# Altium schematic symbol library Connectors.SchLib: 119 symbols (part 2 of 2)
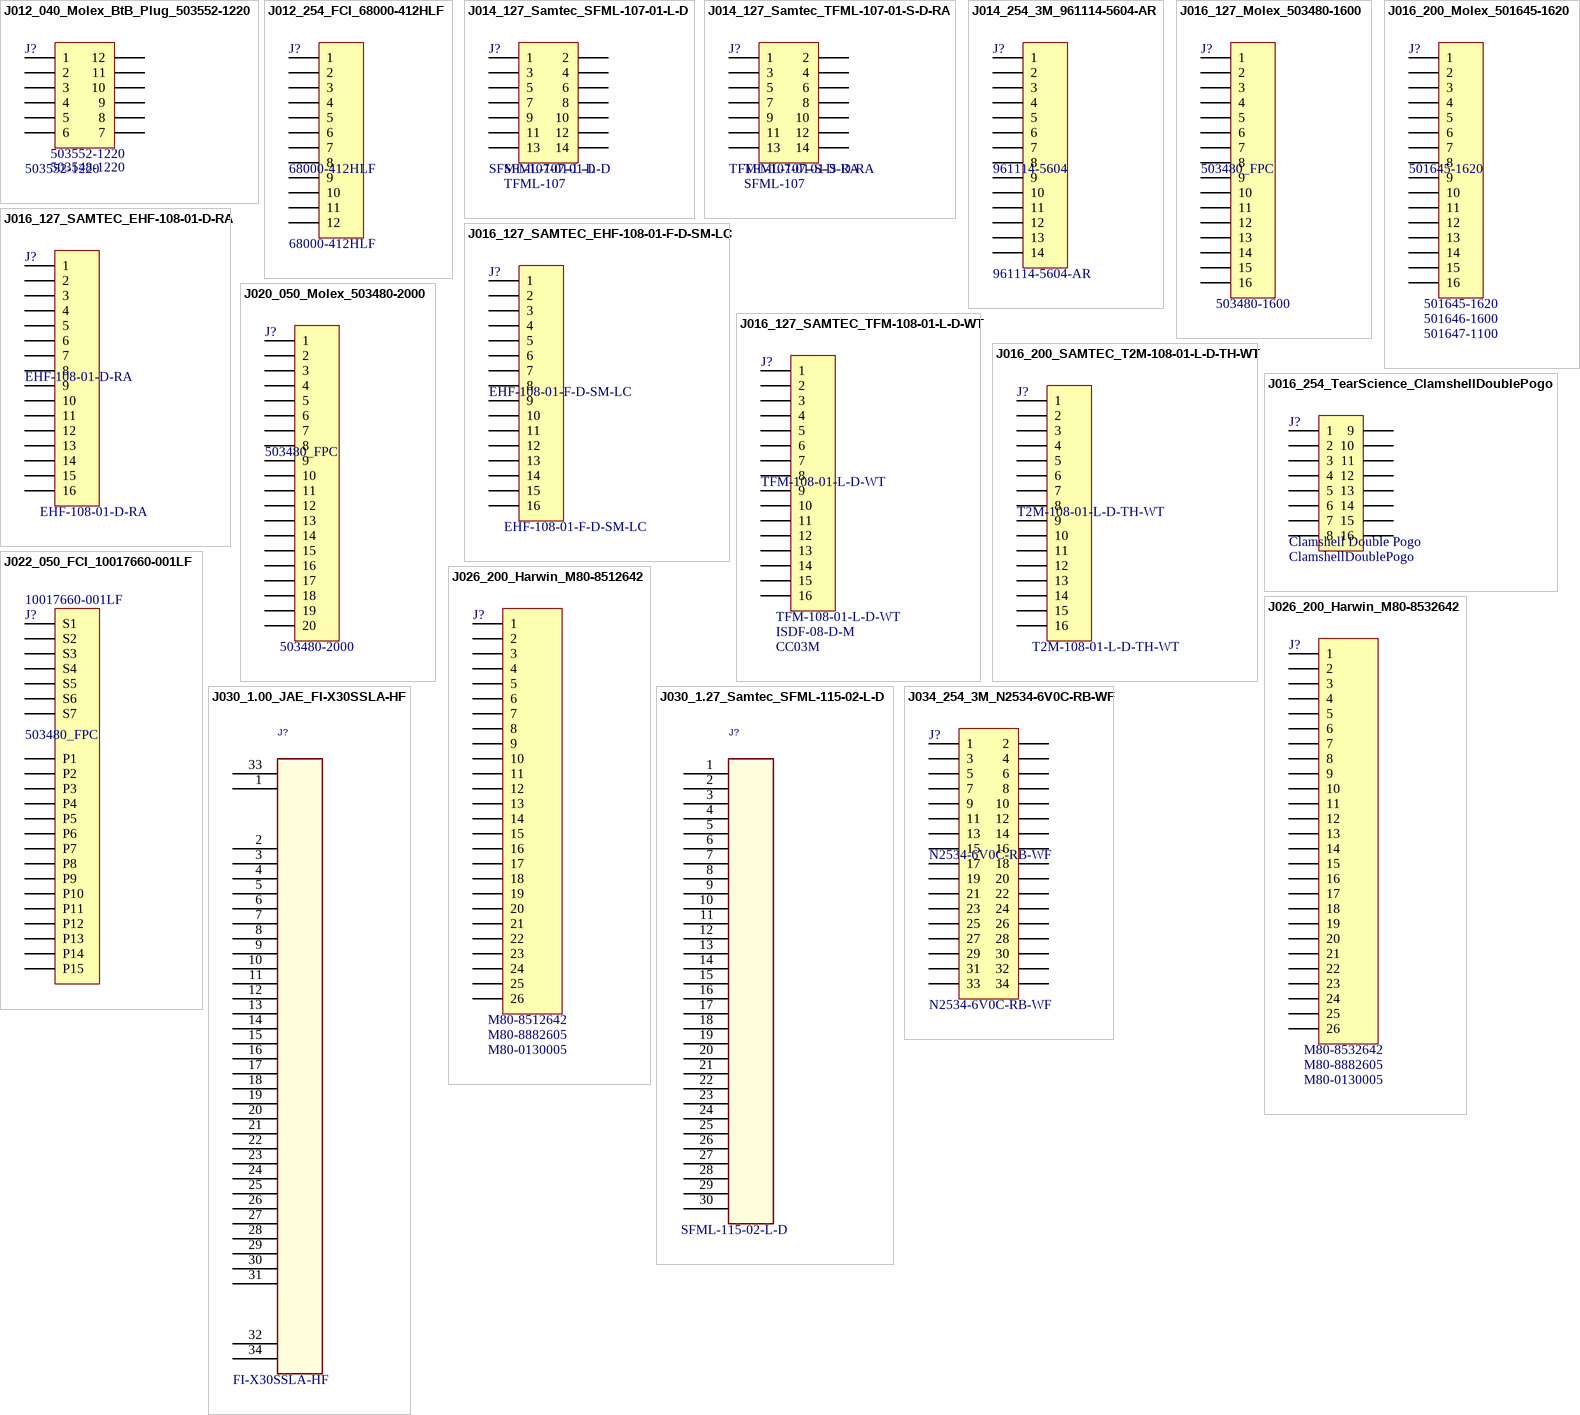
[diagram p4: symbols J012_040_Molex_BtB_Plug_503552-1220 to J034_254_3M_N2534-6V0C-RB-WF]

## J022_050_FCI_10017660-001LF
designator J?, comment 503480_FPC  Part Number: 10017660-001LF
Connector, SATA 22pos, 1.27mm pitch, Dual Contact, Through Hole; Manufacturer: FCI; ContactReel: NA; PackageDescription: SMT; Notes: *; HelpURL: http://portal.fciconnect.com/Comergent//fci/drawing/10017660.pdf; ComponentLink1Description: Supplier Link; ComponentLink1URL: http://www.digikey.com/product-detail/en/amphenol-fci/10017660-001LF/609-1030-ND/1001344; Mate Housing: NA; ContactBulk: NA
footprint FCI_22P-1.27_10017660-001LF (FCI_10017660-001LF)
pins: P1, P2, P3, P4, P5, P6, P7, P8, P9, P10, P11, P12, P13, P14, P15, S1, S2, S3, S4, S5, S6, S7

## J026_200_Harwin_M80-8512642
designator J?, comment Mate Housing: M80-8882605  ContactBulk: M80-0130005  (hidden comment: M80-8512642)
Connector, 26pos, 2.0mm pitch, Dual Row, RA, TH; Manufacturer: Harwin; ContactReel: NA; PackageDescription: TH; Notes: *; ComponentLink1Description: Supplier Link; ComponentLink1URL: http://www.digikey.com/product-detail/en/harwin-inc/M80-8512642/952-1136-5-ND/2264125; Part Number: M80-8512642
footprint Harwin_26P-2.0P_M80-8512642 (Connector Header 26pos 2.0mm TH RA)
pins: 1, 2, 3, 4, 5, 6, 7, 8, 9, 10, 11, 12, 13, 14, 15, 16, 17, 18, 19, 20, 21, 22, 23, 24, 25, 26

## J026_200_Harwin_M80-8532642
designator J?, comment Mate Housing: M80-8882605  ContactBulk: M80-0130005  (hidden comment: M80-8532642)
Connector, 26pos, 2.0mm pitch, Dual Row, TH; Manufacturer: Harwin; ContactReel: NA; PackageDescription: TH; Notes: *; ComponentLink1Description: Supplier Link; ComponentLink1URL: http://www.digikey.com/product-detail/en/harwin-inc/M80-8532642/952-1103-5-ND/2264092; Part Number: M80-8532642
footprint Harwin_26P-2.0P_M80-8532642 (Connector Header 26pos 2.0mm TH)
pins: 1, 2, 3, 4, 5, 6, 7, 8, 9, 10, 11, 12, 13, 14, 15, 16, 17, 18, 19, 20, 21, 22, 23, 24, 25, 26

## J030_1.00_JAE_FI-X30SSLA-HF
designator J?, comment FI-X30SSLA-HF
Connector, Header 32Pos, 1.00mm Pitch, SMT; Manufacturer: JAE; ComponentLink1URL: http://www.digikey.com/product-detail/en/jae-electronics/FI-X30SSLA-HF/670-2617-ND/3542944; HelpURL: http://www.jae.com/z-en/product_en.cfm?l_code=en&series_code=FI-X&product_number=FI-X30SSLA-HF#; Part Number: FI-X30SSLA-HF
footprint JAE_FI-X30SSLA-HF (1.0mm pitch, for interface of LCD)
pins: 1, 2, 3, 4, 5, 6, 7, 8, 9, 10, 11, 12, 13, 14, 15, 16, 17, 18, 19, 20, 21, 22, 23, 24, 25, 26, 27, 28, 29, 30, 31, 32, 33, 34

## J030_1.27_Samtec_SFML-115-02-L-D
designator J?, comment SFML-115-02-L-D
Connector, Header 30Pos, 1.27mm Pitch, SMT; Manufacturer: Samtec; ComponentLink1URL: http://www.digikey.com/product-detail/en/samtec-inc/SFML-115-02-L-D/SFML-115-02-L-D-ND/2664684; Part Number: SFML-115-02-L-D
footprint CON_SFML-115-02-L-D (Samtec 30 Position Receptacle Connector 0.050" (1.27mm) Surface Mount Gold)
pins: 1, 2, 3, 4, 5, 6, 7, 8, 9, 10, 11, 12, 13, 14, 15, 16, 17, 18, 19, 20, 21, 22, 23, 24, 25, 26, 27, 28, 29, 30

## J034_254_3M_N2534-6V0C-RB-WF
designator J?, comment N2534-6V0C-RB-WF
Connector, Header 34pos, 2.54mm pitch, SMT; Manufacturer: 3M; ContactReel: NA; Mate Housing: 1658621-8; PackageDescription: SMT; Notes: *; HelpURL: C:\Dropbox\Component Datasheets\(J) Connectors\3M_N2534.pdf; ComponentLink1Description: Supplier Link; ComponentLink1URL: http://www.digikey.com/product-detail/en/N2534-6V0C-RB-WF/MSH34KTR-ND/1125441; ContactBulk: NA; Part Number: N2534-6V0C-RB-WF
pins: 1, 2, 3, 4, 5, 6, 7, 8, 9, 10, 11, 12, 13, 14, 15, 16, 17, 18, 19, 20, 21, 22, 23, 24, 25, 26, 27, 28, 29, 30, 31, 32, 33, 34

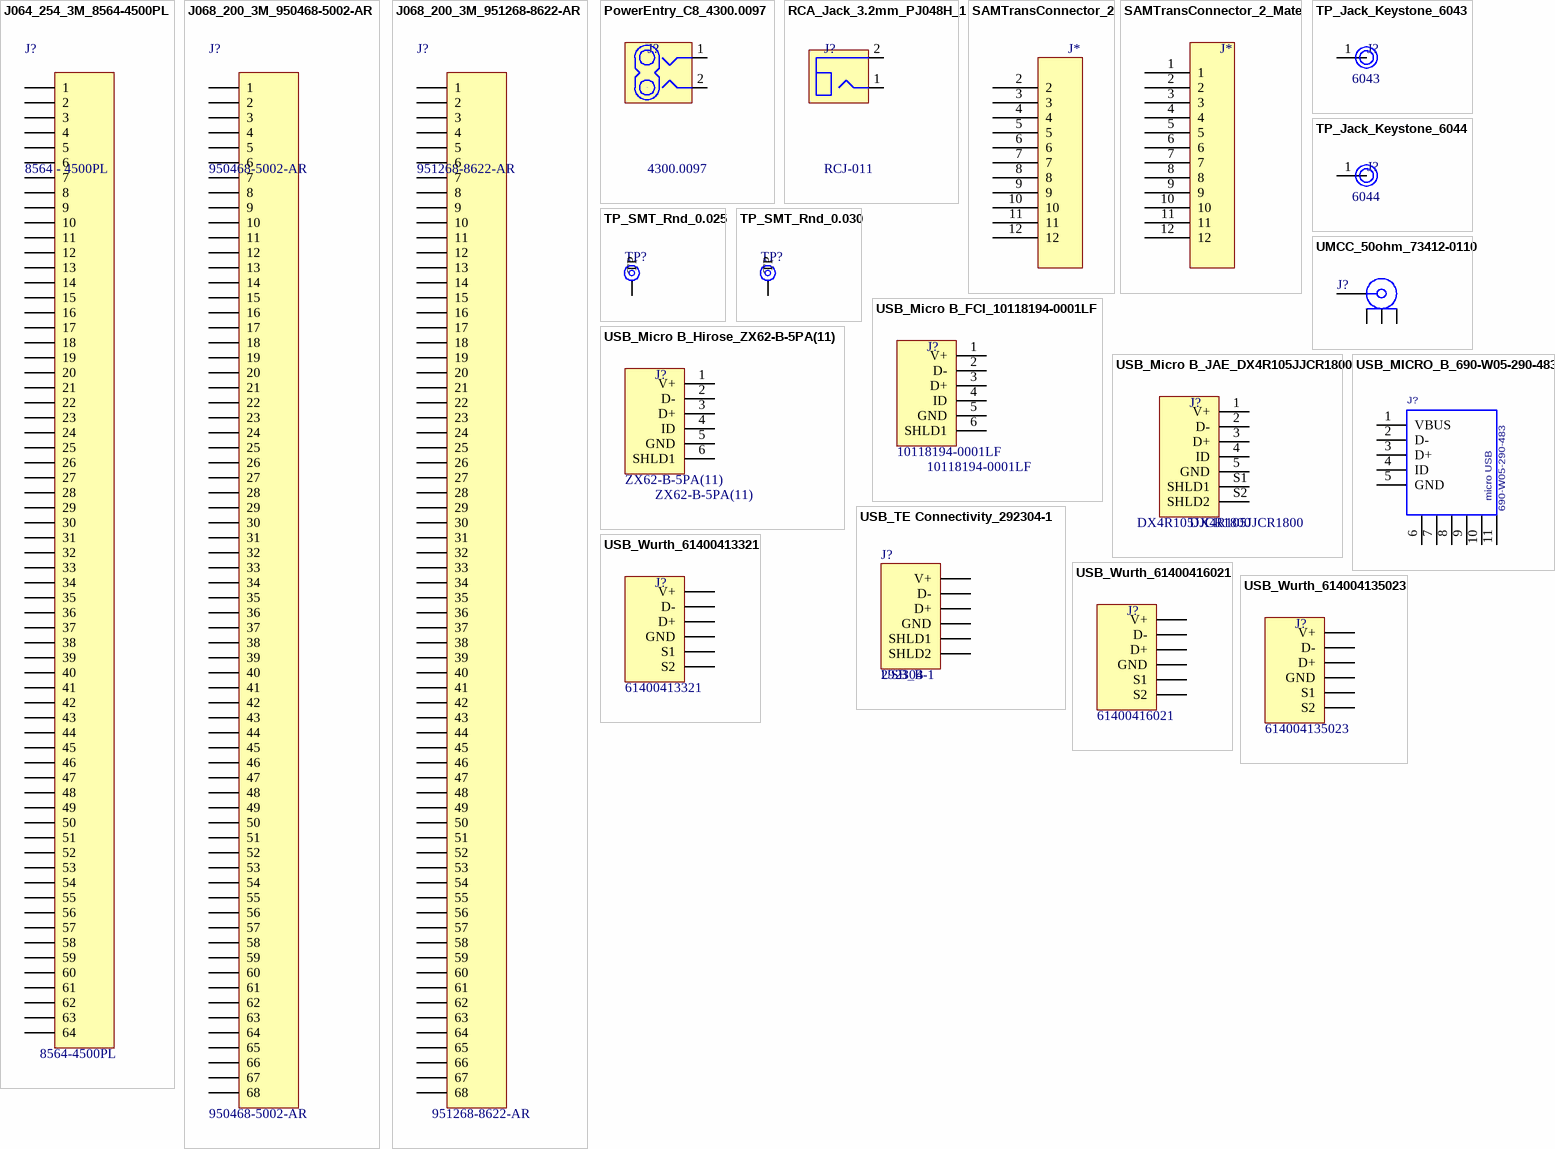
[diagram p3: symbols J064_254_3M_8564-4500PL to USB_Wurth_614004135023]

## J064_254_3M_8564-4500PL
designator J?, comment 8564 - 4500PL  Part Number: 8564-4500PL
Connector, Header 64pos, 2.54mm pitch, Through Hole; Manufacturer: 3M; ContactReel: NA; Mate Housing: 1658621-8; PackageDescription: Header 64pos, 2.54mm; Notes: *; ComponentLink1Description: Supplier Link; ComponentLink1URL: http://www.digikey.com/product-detail/en/3m/8564-4500PL/MSPV64-ND/1306255; ContactBulk: NA
footprint Generic_64p-2.54_Header
pins: 1, 2, 3, 4, 5, 6, 7, 8, 9, 10, 11, 12, 13, 14, 15, 16, 17, 18, 19, 20, 21, 22, 23, 24, 25, 26, 27, 28, 29, 30, 31, 32, 33, 34, 35, 36, 37, 38, 39, 40, 41, 42, 43, 44, 45, 46, 47, 48, 49, 50, 51, 52, 53, 54, 55, 56, 57, 58, 59, 60, 61, 62, 63, 64

## J068_200_3M_950468-5002-AR
designator J?, comment 950468-5002-AR
Connector, Header 68pos, 2.0mm pitch, Through Hole RA; Manufacturer: 3M; ContactReel: NA; PackageDescription: Header 68pos, 2.00mm RA; Notes: *; HelpURL: http://www.digikey.com/product-detail/en/3m/950468-5002-AR/950468-5002-AR-ND/1939339; ComponentLink1Description: Supplier Link; ContactBulk: NA; Part Number: 950468-5002-AR
footprint Generic_68p-2.00_Header-RA
pins: 1, 2, 3, 4, 5, 6, 7, 8, 9, 10, 11, 12, 13, 14, 15, 16, 17, 18, 19, 20, 21, 22, 23, 24, 25, 26, 27, 28, 29, 30, 31, 32, 33, 34, 35, 36, 37, 38, 39, 40, 41, 42, 43, 44, 45, 46, 47, 48, 49, 50, 51, 52, 53, 54, 55, 56, 57, 58, 59, 60, 61, 62, 63, 64, 65, 66, 67, 68

## J068_200_3M_951268-8622-AR
designator J?, comment 951268-8622-AR
Connector, Header 68pos, 2.0mm pitch, Through Hole RA; Manufacturer: 3M; ContactReel: NA; PackageDescription: Header 68pos, 2.00mm; Notes: *; HelpURL: http://www.digikey.com/product-detail/en/3m/951268-8622-AR/951268-8622-AR-ND/1939840; ComponentLink1Description: Supplier Link; ContactBulk: NA; Part Number: 951268-8622-AR
footprint Generic_68p-2.00_Header
pins: 1, 2, 3, 4, 5, 6, 7, 8, 9, 10, 11, 12, 13, 14, 15, 16, 17, 18, 19, 20, 21, 22, 23, 24, 25, 26, 27, 28, 29, 30, 31, 32, 33, 34, 35, 36, 37, 38, 39, 40, 41, 42, 43, 44, 45, 46, 47, 48, 49, 50, 51, 52, 53, 54, 55, 56, 57, 58, 59, 60, 61, 62, 63, 64, 65, 66, 67, 68

## PowerEntry_C8_4300.0097
designator J?, comment 4300.0097
Connector, Power Entry, C8 non-polar, Panel Mnt, TH; Manufacturer: Schurter Inc.; HelpURL: http://www.digikey.com/product-detail/en/schurter-inc/4300.0097/486-2095-ND/639964; PackageDescription: TH; Part Number: 4300.0097
footprint Schurter_4300.0097 (IEC 320-C8 Power Entry Connector)
pins: 1 (power), 2 (power)

## RCA_Jack_3.2mm_PJ048H_1
designator J?, comment RCJ-011
Connector, RCA Phono Jack, 3.2mm x 9.0mm, TH; Manufacturer: CUI Inc.; HelpURL: http://www.digikey.com/product-detail/en/cui-inc/RCJ-011/CP-1400-ND/408487; PackageDescription: TH; Part Number: RCJ-011
footprint RCA_RCJ-011 (RCA Phono Jack 3.2mm x 9.0mm)
pins: 1 (power), 2 (power)

## SAMTransConnector_2
designator J*  (value not drawn)
SAMTransConnector_Land Pattern
footprint Custom_11P-SamTrans_LandPattern-2 (SAMTransConnector_LandPattern)
pins: 2, 3, 4, 5, 6, 7, 8, 9, 10, 11, 12

## SAMTransConnector_2_Mate
designator J*  (value not drawn)
SAMTransConnector_Land Pattern
footprint Custom_11P-SAMTrans_LandPattern-2-Mate (SAMTransConnector_Mate)
pins: 1, 2, 3, 4, 5, 6, 7, 8, 9, 10, 11, 12

## TP_Jack_Keystone_6043
designator J?, comment Part Number: 6043  (hidden comment: TestJack)
Test Plug, Vertical, Red; Manufacturer: Keystone Electronics; PackageDescription: TH; Notes: *; HelpURL: C:\Dropbox\Component Datasheets\(J) Connectors\Keystone_6044_Test Plug.pdf; ComponentLink1Description: Supplier Link; ComponentLink1URL: http://www.mouser.com/Search/ProductDetail.aspx?R=6043virtualkey53400000virtualkey534-6043
footprint Keystone_TP_VERT (Test Plug, Vertical)
pins: 1

## TP_Jack_Keystone_6044
designator J?, comment Part Number: 6044  (hidden comment: TestJack)
Test Plug, Vertical, Black; Manufacturer: Keystone Electronics; PackageDescription: TH; Notes: *; HelpURL: C:\Dropbox\Component Datasheets\(J) Connectors\Keystone_6044_Test Plug.pdf; ComponentLink1Description: Supplier Link; ComponentLink1URL: http://www.mouser.com/Search/ProductDetail.aspx?R=6044virtualkey53400000virtualkey534-6044
footprint Keystone_TP_VERT (Test Plug, Vertical)
pins: 1

## TP_SMT_Rnd_0.025
designator TP?, comment TP_Smt  (value not drawn)
Test Point, SMT, Round, 25mil; Size: 0.025
footprint TP_SMT_0.025 (Test Point, Surface Mount 25mil)
pins: 1 TP

## TP_SMT_Rnd_0.030
designator TP?, comment TP_Smt  (value not drawn)
Test Point, SMT, Round, 30mil; Size: 0.030
footprint TP_SMT_0.030 (Test Point, Surface Mount 30mil)
pins: 1 TP

## UMCC_50ohm_73412-0110
designator J?, comment 73412-0110  (value not drawn)
Connector, UM Coaxial, 50ohm, Rect Male, SMT; Manufacturer: Molex; PackageDescription: SMT; Notes: *; HelpURL: http://www.molex.com/pdm_docs/sd/734120110_sd.pdf; ContactReel: *; ComponentLink1Description: Supplier Link; ComponentLink1URL: http://www.digikey.com/product-detail/en/molex-llc/0734120110/WM5587CT-ND/1894612; Mate Housing: UM Coaxial; ContactBulk: *; Part Number: 73412-0110
footprint UMCC (Ultra Minature Coaxial Connector)
pins: 1 SIG, 2 GND, 3 GND, 4 GND

## USB_Micro B_FCI_10118194-0001LF
designator J?, comment 10118194-0001LF
Connector USB Receptacle R/A Micro B Type, OTG; Manufacturer: FCI; HelpURL: C:\Dropbox\Component Datasheets\(J) Connectors\FCI_MicroUSB_10118194.pdf; PackageDescription: SMT; Part Number: 10118194-0001LF
footprint USB_MicroB_RA_FCI (USB micro Type B Standard connector SMT  - FCI)
pins: 1 V+ (power), 2 D-, 3 D+, 4 ID (power), 5 GND, 6 SHLD1

## USB_Micro B_Hirose_ZX62-B-5PA(11)
designator J?, comment ZX62-B-5PA(11)
Connector USB Receptacle R/A Micro B Type, OTG; Manufacturer: Hirose; HelpURL: C:\Dropbox\Component Datasheets\(J) Connectors\Hirose_USB_ZX_20140804.pdf; PackageDescription: SMT; Part Number: ZX62-B-5PA(11)
footprint USB_MicroB_RA (USB micro Type B Standard connector SMT  - HIROSE)
pins: 1 V+ (power), 2 D-, 3 D+, 4 ID (power), 5 GND, 6 SHLD1

## USB_Micro B_JAE_DX4R105JJCR1800
designator J?, comment DX4R105JJCR1800
Connector USB Receptacle R/A Micro B Type, Reverse Mount; Manufacturer: JAE Electronics; HelpURL: http://www.digikey.com/product-detail/en/jae-electronics/DX4R105JJCR1800/670-2676-1-ND/3903236; PackageDescription: SMT; Supplier Link: *; Part Number: DX4R105JJCR1800
footprint USB_MicroB_ReverseMNT (USB micro Type B Reverse mount JAE)
pins: 1 V+ (power), 2 D-, 3 D+, 4 ID (power), 5 GND, S1 SHLD1, S2 SHLD2

## USB_MICRO_B_690-W05-290-483
designator J?, comment value micro USB  Part Number: 690-W05-290-483  (hidden comment: USB_MICRO_B_W/PROOF_690-W05-290-483)
Connector, header MicroUSB, 5pos, 0.80mm pitch; Manufacturer: EDAC Inc.; PCB DECAL: USB_MICRO_B_690-W05-290-483
footprint USB_MICRO_B_690-W05-290-483 (EDAC 690-W05-290-483)
pins: 1 VBUS (power), 2 D-, 3 D+, 4 ID, 5 GND, 6, 7, 8, 9, 10, 11

## USB_TE Connectivity_292304-1
designator J?, comment USB_B  Part Number: 292304-1
Connector USB Receptacle R/A B Type; Manufacturer: TE Connectivity; HelpURL: C:\Dropbox\Component Datasheets\(J) Connectors\TE_USB B right angle_292304; PackageDescription: Through Hole
footprint TE_USB-B/RA_292304-1 (Connector USB R/A Type B)
pins: 1 V+ (power), 2 D-, 3 D+, 4 GND (power), 5 SHLD1, 6 SHLD2

## USB_Wurth_61400413321
designator J?, comment 61400413321
Connector USB Receptacle Vertical B Type; Manufacturer: Wurth Elektronik; HelpURL: http://katalog.we-online.de/en/em/COM_TYPE_B_VERTICAL?sid=94f120e027#vs_t1:3; PackageDescription: Through Hole; Part Number: 61400413321
footprint Wurth_USB-B_61400413321 (F Str 04p Btype vertical)
pins: 1 V+ (power), 2 D-, 3 D+, 4 GND (power), 5 S1, 6 S2

## USB_Wurth_61400416021
designator J?, comment 61400416021
Connector USB Receptacle Horz. A Type; Manufacturer: Wurth Elektronik; HelpURL: http://katalog.we-online.com/en/em/COM_TYPE_A_HORIZONTAL?sid=e3976d93cc; PackageDescription: Through Hole; Part Number: 61400416021
footprint Wurth_USB-A_61400416021 (4 pins)
pins: 1 V+ (power), 2 D-, 3 D+, 4 GND (power), 5 S1, 6 S2

## USB_Wurth_614004135023
designator J?, comment 614004135023
Connector USB Receptacle Vert. A Type; Manufacturer: Wurth Elektronik; HelpURL: http://katalog.we-online.com/en/em/COM_TYPE_A_VERTICAL; PackageDescription: Through Hole; Part Number: 614004135023
footprint Wurth_USB-A_614004135023 (4 pins)
pins: 1 V+ (power), 2 D-, 3 D+, 4 GND (power), 5 S1, 6 S2